# EAGLE library part BQ24092DGQR (library pimoroni-ics)
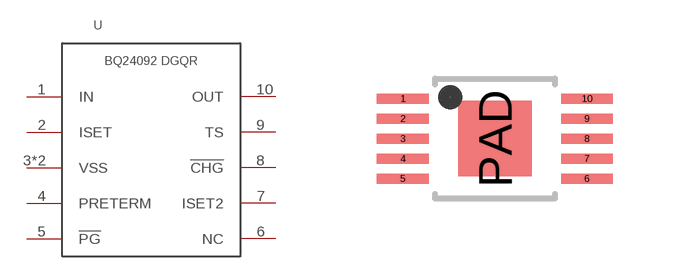
[diagram p51: symbol with the pads of HVSSOP-10; footprint HVSSOP-10]

Designator prefix U

## BQ24092DGQR  [HVSSOP-10]
1  IN  pwr
2  ISET  in
3  VSS  pwr
4  PRETERM  in
5  !PG!  out
6  NC  nc
7  ISET2  in
8  !CHG!  out
9  TS  in
10  OUT  pwr
PAD  VSS  pwr

## Footprint HVSSOP-10 (pad centres in mm)
smd 1.3 x 0.25: 1 -2.3,1; 2 -2.3,0.5; 3 -2.3,0; 4 -2.3,-0.5; 5 -2.3,-1; 6 2.3,-1; 7 2.3,-0.5; 8 2.3,0; 9 2.3,0.5; 10 2.3,1
smd 1.83 x 1.89: PAD 0,0